# Altium schematic symbol library INA826.SchLib: 1 symbol
Pins are listed as number, name and electrical type; pins without a type are passive.

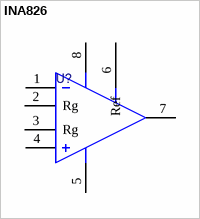
[diagram p0: symbol INA826]

## INA826
designator U?  (value not drawn)
pins: 1 -IN, 2 Rg, 3 Rg, 4 +IN, 5 V-, 6 Ref (power), 7 OUT, 8 V+